# Altium footprint library L6.PcbLib: 4 footprints
Each footprint in its own frame and in the unit in brackets; x right, y up, seen from the top. Pads: shape width x height; smd on the part's side, far side on the other; paste and mask are expansions set on the pad; w line width, h text height; cw(c..) or ccw(c..) is an arc to the next point about the centre after c.
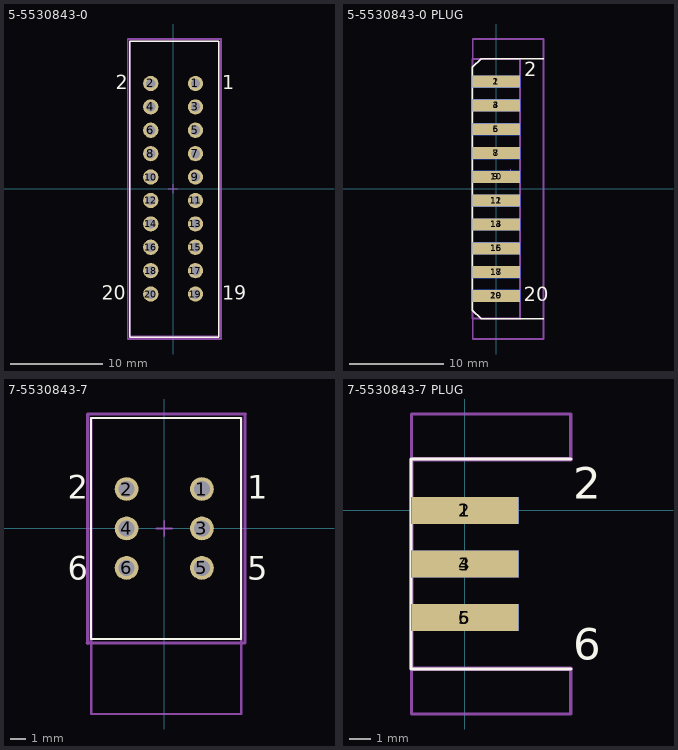
[diagram p0: the footprints below, top view; thin cyan lines are the x and y axes]

## 5-5530843-0 [mil] "CONN SEC II 10 POS 100C/L"
pads (20):
  round 65 hole 40 mask+2.76: 1(95.5,450) 2(-95.5,450) 3(95.5,350) 4(-95.5,350) 5(95.5,250) 6(-95.5,250) 7(95.5,150) 8(-95.5,150) 9(95.5,50) 10(-95.5,50) 11(95.5,-50) 12(-95.5,-50) 13(95.5,-150) 14(-95.5,-150) 15(95.5,-250) 16(-95.5,-250) 17(95.5,-350) 18(-95.5,-350) 19(95.5,-450) 20(-95.5,-450)
Top Overlay:
  lines w5.91: -185.5,-635 -185.5,630 -180.5,630 194.5,630 194.5,-635 -185.5,-635
  text "1" at 210,425 h59.06
  text "2" at -245,425 h59.06
  text "20" at -304.04,-475 h59.06
  text "19" at 210,-475 h59.06
Top Assembly:
  lines w3.94: -19.68,0 19.68,0 ; 0,-19.68 0,19.68
  lines w5.91: -185,-630 195,-630 195,630 -185,630 -185,-630
Top Courtyard:
  lines w7.87: -193.94,-641.99 -193.94,254.27 -193.94,640 205.39,640 205.39,-641.99 -193.94,-641.99
3D body "c-5-5530843-0-f-3d.stp": height 610, standoff -125, extent -182,-630 191,630

## 5-5530843-0 PLUG [mil] "CONN SEC II 10 POS 100C/L PLUG"
pads (20):
  rect 200x50 smd far side mask+2.76: 1(0,450) 3(0,350) 5(0,250) 7(0,150) 9(0,50) 11(0,-50) 13(0,-150) 15(0,-250) 17(0,-350) 19(0,-450)
  rect 200x50 smd mask+2.76: 2(0,450) 4(0,350) 6(0,250) 8(0,150) 10(0,50) 12(0,-50) 14(0,-150) 16(0,-250) 18(0,-350) 20(0,-450)
Top Layer:
  lines w5.91: -100.39,-450 0,-450
Top Overlay:
  lines w5.91: 197.83,-546.06 -64.17,-546.06 -100.39,-509.84 -100.39,509.84 -64.17,546.06 197.83,546.06
  text "2" at 117.13,471.65 h59.06
  text "20" at 115.16,-472.24 h59.06
Bottom Overlay:
  lines w5.91: 100.39,-546.06 -100.39,-546.06 -100.39,510.83 -65.16,546.06 100.39,546.06
  text "1" at 144.69,471.65 h59.06
  text "19" at 213.55,-472.24 h59.06
Bottom Courtyard:
  lines w5.91: -100.39,-546.06 -100.39,546.46 100.39,546.46 100.39,-546.06 -100.39,-546.06
Bottom 3D Body:
  lines w3.94: 41.22,61.97 80.59,61.97 ; 60.91,42.28 60.91,81.65
  lines w7.87: -99.41,-545.08 -99.41,-630.91 197.83,-630.91 197.83,628.94 -99.41,628.94 -99.41,545.47 ; -99.41,-545.08 -99.41,282.61 -99.41,545.47 ; -99.41,-545.08 99.41,-545.08 99.41,545.47 -99.41,545.47
3D body "c-5-5530843-0-f-3d.stp": height 148.57, standoff -224.43, extent -537.4,-630.98 197.6,629.02

## 7-5530843-7 [mil]
pads (6):
  round 60 hole 40 mask+2.76: 1(95.5,100) 2(-95.5,100) 3(95.5,0) 4(-95.5,0) 5(95.5,-100) 6(-95.5,-100)
Top Overlay:
  lines w5.91: -185.5,-280 -185.5,280 79.5,280 194.5,280 194.5,-280 -185,-280
  text "1" at 210,75 h59.06
  text "2" at -245,75 h59.06
  text "6" at -245,-130 h59.06
  text "5" at 210,-130 h59.06
Mechanical 13:
  lines w5.91: -185,-280 185,-280 ; -185,-470 -185,280 195,280 195,-470 -185,-470
Mechanical 15:
  lines w3.94: -19.68,0 19.68,0 ; 0,-19.68 0,19.68
  lines w7.87: -195,-290 205,-290 205,290 ; -193.94,-291.06 -193.94,254.27 -193.94,290 205.39,290
3D body "c-7-5530843-7-f-3d.stp": height 610, standoff -125, extent -183.5,-469.99 189.5,280.01

## 7-5530843-7 PLUG [mil]
pads (6):
  rect 200x50 smd far side mask+2.76: 1(0,0) 3(0,-100) 5(0,-200)
  rect 200x50 smd mask+2.76: 2(0,0) 4(0,-100) 6(0,-200)
Top Overlay:
  lines w5.91: 197.5,-296.06 -100.39,-296.06 -100.39,96.06 197.5,96.06
  text "2" at 202.13,21.65 h59.06
  text "6" at 202.13,-278.35 h59.06
Bottom Overlay:
  lines w5.91: 200,-295 -100.39,-296.06 -100.39,96.06 200,95
  text "1" at 229.69,21.65 h59.06
  text "5" at 249.36,-286.22 h59.06
Mechanical 13:
  lines w5.91: -100.39,-296.46 100.39,-296.46 ; -100.39,96.46 100.39,96.46
Mechanical 15:
  lines w5.91: -100,-295.47 -100,-380.01 104,-380.01 197.5,-380.01 197.5,-295.47 ; -100,95.47 -100,180.01 104,180.01 197.5,180.01 197.5,95.47
  lines w7.87: -100,-295.47 -100,95.47 197.5,95.47 ; -99.41,-295.47 197.5,-295.47
3D body "c-7-5530843-7-f-3d.stp": height 184, standoff -189, extent -537.5,-570 197.5,180